# Altium schematic symbol library MAX22508EASA_plus_.SchLib: 2 symbols
Pins are listed as number, name and electrical type; pins without a type are passive.

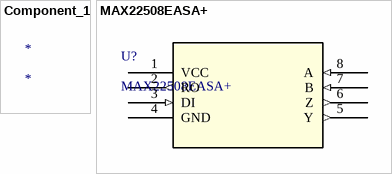
[diagram p0: symbols Component_1 to MAX22508EASA+]

## Component_1
designator *

## MAX22508EASA+
designator U?
No Description Available; Mfr_Name: Maxim Integrated Products; Copyright: Copyright (C) 2022 Ultra Librarian. All rights reserved.; Manufacturer_Part_Number: MAX22508EASA+; RefDes: RefDes; Type: DEV
footprint 21-0041_S8+2C_MXM
pins: 1 VCC (power), 2 RO (out), 3 DI (in), 4 GND, 5 Y (out), 6 Z (out), 7 B (in), 8 A (in)